# Altium schematic symbol library SPIFlash_S70FL01GSAGMFV010.SchLib: 1 symbol
Pins are listed as number, name and electrical type; pins without a type are passive.

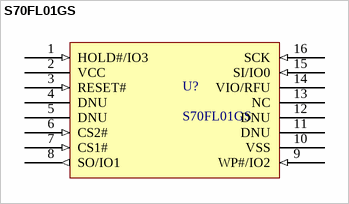
[diagram p0: symbol S70FL01GS]

## S70FL01GS
designator U?
S70FL01GS SPI NOR Flash; Manufacturer: Cypress; Reference: S70FL01GSAGMFV010
pins: 1 HOLD#/IO3 (in), 2 VCC (power), 3 RESET# (in), 4 DNU, 5 DNU, 6 CS2# (in), 7 CS1# (in), 8 SO/IO1 (out), 9 WP#/IO2 (in), 10 VSS (power), 11 DNU, 12 DNU, 13 NC, 14 VIO/RFU (power), 15 SI/IO0 (in), 16 SCK (in)